# EAGLE library part 61300611021 (library Wuerth_Elektronik_eiCan_Pin_&_Socked_Headers_v1.3)
WR-PHD 2.54mm Angled Pin Header, 6 Pins
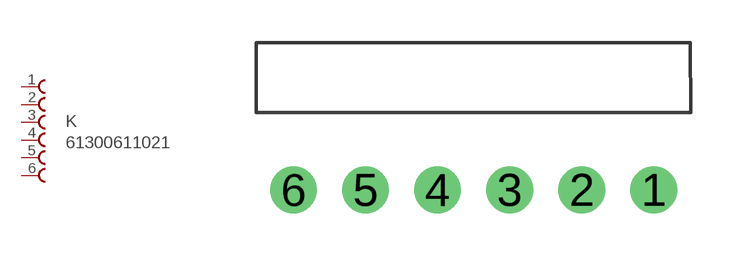
[diagram p39: symbol with the pads of 61300611021; footprint 61300611021]

Designator prefix K

## 61300611021  [61300611021]
1  1  pas
2  2  pas
3  3  pas
4  4  pas
5  5  pas
6  6  pas

## Footprint 61300611021 (pad centres in mm)
WR-PHD 2.54mm Angled Pin Header, 6 Pins
drill 1.1 round: 1 6.35,0; 2 3.81,0; 3 1.27,0; 4 -1.27,0; 5 -3.81,0; 6 -6.35,0